# EAGLE library part AP7312-1833 (library scono)
https://www.digikey.com/product-detail/en/diodes-incorporated/AP7312-1833W6-7/AP7312-1833W6-7DICT-ND/2901064
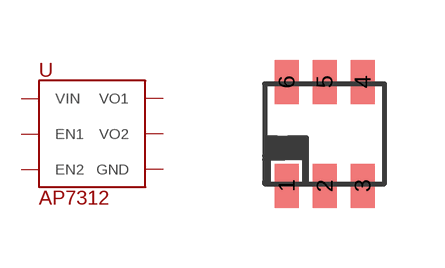
[diagram p41: symbol with the pads of 6-SOT; footprint 6-SOT]

Designator prefix U

## AP7312-1833  [6-SOT]
1  VO2
2  GND
3  EN2
4  EN1
5  VIN
6  VO1

## Footprint 6-SOT (pad centres in mm)
smd 0.6 x 1.1: 1 -0.95,-1.3; 2 0,-1.3; 3 0.95,-1.3; 4 0.95,1.3; 5 0,1.3; 6 -0.95,1.3